# Altium footprint library SOT457.PcbLib: 1 footprints
Each footprint in its own frame and in the unit in brackets; x right, y up, seen from the top. Pads: shape width x height; smd on the part's side, far side on the other; paste and mask are expansions set on the pad; w line width, h text height; cw(c..) or ccw(c..) is an arc to the next point about the centre after c.
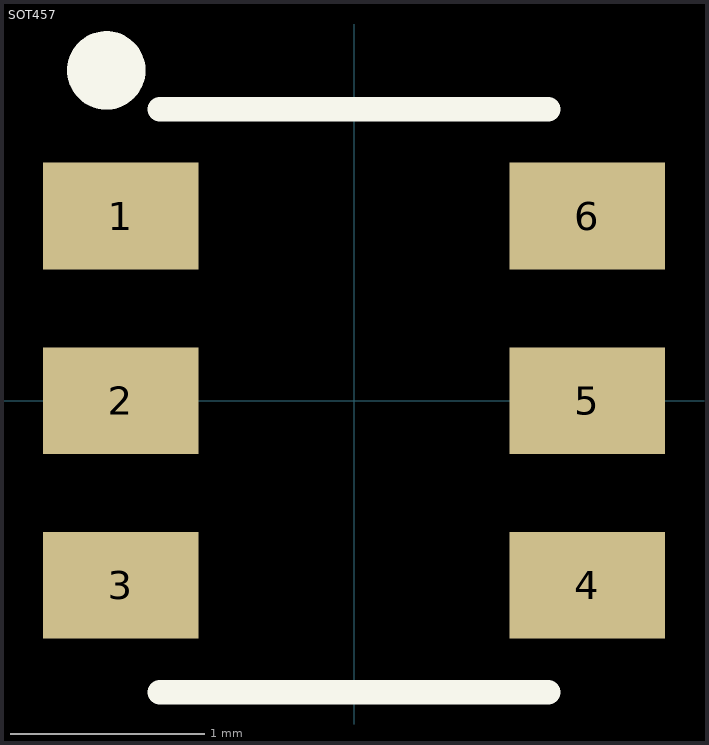
[diagram p0: the footprint, top view; thin cyan lines are the x and y axes]

## SOT457 [mm] "SOT-457, SC-74, SC74, 6-TSOP"
height 1.1
pads (6):
  rect 0.8x0.55 smd: 1(-1.2,0.95) 2(-1.2,0) 3(-1.2,-0.95) 4(1.2,-0.95) 5(1.2,0) 6(1.2,0.95)
Top Overlay:
  circle w0.254: c-1.275,1.7 r0.075
  lines w0.127: -1,-1.5 1,-1.5 ; -1,1.5 1,1.5
3D body: height 1.1, standoff 0, extent -1,-1.5 1,1.5